# EAGLE library part 6861XX14122_68612814122 (library 68611414422)
WR-FPC 1.00 mm SMT ZIF Horizontal Top Contact KIND PROPERTIES Pitch 1 mm MATERIAL PROPERTIES Insulator Material PPS Contact Material Phosphor Bronze Contact Plating 100 (µ") Tin over 50 (µ") Nickel Contact Type Stamped <https://www.we-online.com/catalog/media/o33098v209%20Family_WR-FPC_68610414122.jpg> Details see: https://www.we-online.com/catalog/en/FPC_1_00_SMT_ZIF_HORIZONTAL_TOP_CONTACT_6861XX14122/ Updated by Ella Wu 2021-07-19 2021(C) Wurth Elektronik
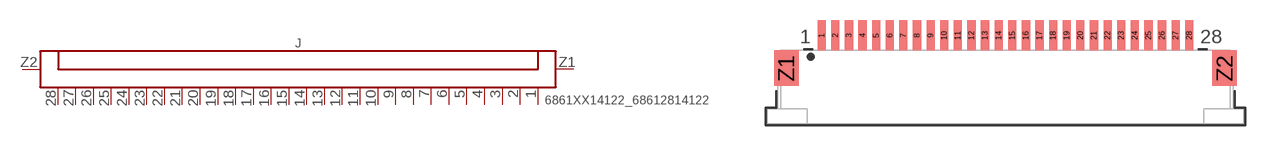
[diagram p212: symbol with the pads of 68612814122; footprint 68612814122]

Designator prefix J

## 6861XX14122_68612814122 (CONTACT-RESISTANCE: 20mOhm; DATASHEET-URL: https://www.we-online.com/catalog/datasheet/68612814122.pdf; IR: 1A; L: 35mm; MATE-WITH: WR-FFC 1.00 mm Flat Flexible Cable Type 1 (Contacts on same side)/ Type 2 (Contacts opposite); PACKAGING: Tape and Reel; PART-NUMBER: 68612814122; PINS: 28; PITCH: 1mm; TYPE: Horizontal; VALUE: 68612814122; WORKING-VOLTAGE: 125V(AC))  [68612814122]
1  1  pas
2  2  pas
3  3  pas
4  4  pas
5  5  pas
6  6  pas
7  7  pas
8  8  pas
9  9  pas
10  10  pas
11  11  pas
12  12  pas
13  13  pas
14  14  pas
15  15  pas
16  16  pas
17  17  pas
18  18  pas
19  19  pas
20  20  pas
21  21  pas
22  22  pas
23  23  pas
24  24  pas
25  25  pas
26  26  pas
27  27  pas
28  28  pas
Z1  Z1  pas
Z2  Z2  pas

## Footprint 68612814122 (pad centres in mm)
WR-FPC 1.00 mm SMT ZIF Horizontal Top Contact,28 Pins
smd 0.6 x 2.2: 1 -13.5,3.8; 2 -12.5,3.8; 3 -11.5,3.8; 4 -10.5,3.8; 5 -9.5,3.8; 6 -8.5,3.8; 7 -7.5,3.8; 8 -6.5,3.8; 9 -5.5,3.8; 10 -4.5,3.8; 11 -3.5,3.8; 12 -2.5,3.8; 13 -1.5,3.8; 14 -0.5,3.8; 15 0.5,3.8; 16 1.5,3.8; 17 2.5,3.8; 18 3.5,3.8; 19 4.5,3.8; 20 5.5,3.8; 21 6.5,3.8; 22 7.5,3.8; 23 8.5,3.8; 24 9.5,3.8; 25 10.5,3.8; 26 11.5,3.8; 27 12.5,3.8; 28 13.5,3.8
smd 1.8 x 2.6: Z1 -16.1,1.4; Z2 16.1,1.4